# Altium schematic symbol library CRCW060330K0FKEA.SchLib: 1 symbol
Pins are listed as number, name and electrical type; pins without a type are passive.

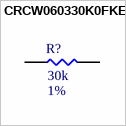
[diagram p0: symbol CRCW060330K0FKEA]

## CRCW060330K0FKEA
designator R?  Resistance: 30k  Tolerance: 1%  (hidden comment: CRCW060330K0FKEA)
RES SMD 30K OHM 1% 1/10W 0603; MFR: Vishay Dale; PN: CRCW060330K0FKEA; Footprint: RES0603; Package: 0603; ComponentLink1Description: Datasheet; Power Rating: 1/10W; Supplier 1: Mouser; Supplier Part Number 1: 71-CRCW0603-30K-E3
footprint RES0603 (Generic 0603)
pins: 1, 2